# Altium footprint library djahng.PcbLib: 58 footprints (part 4 of 4)
Each footprint in its own frame and in the unit in brackets; x right, y up, seen from the top. Pads: shape width x height; smd on the part's side, far side on the other; paste and mask are expansions set on the pad; w line width, h text height; cw(c..) or ccw(c..) is an arc to the next point about the centre after c.
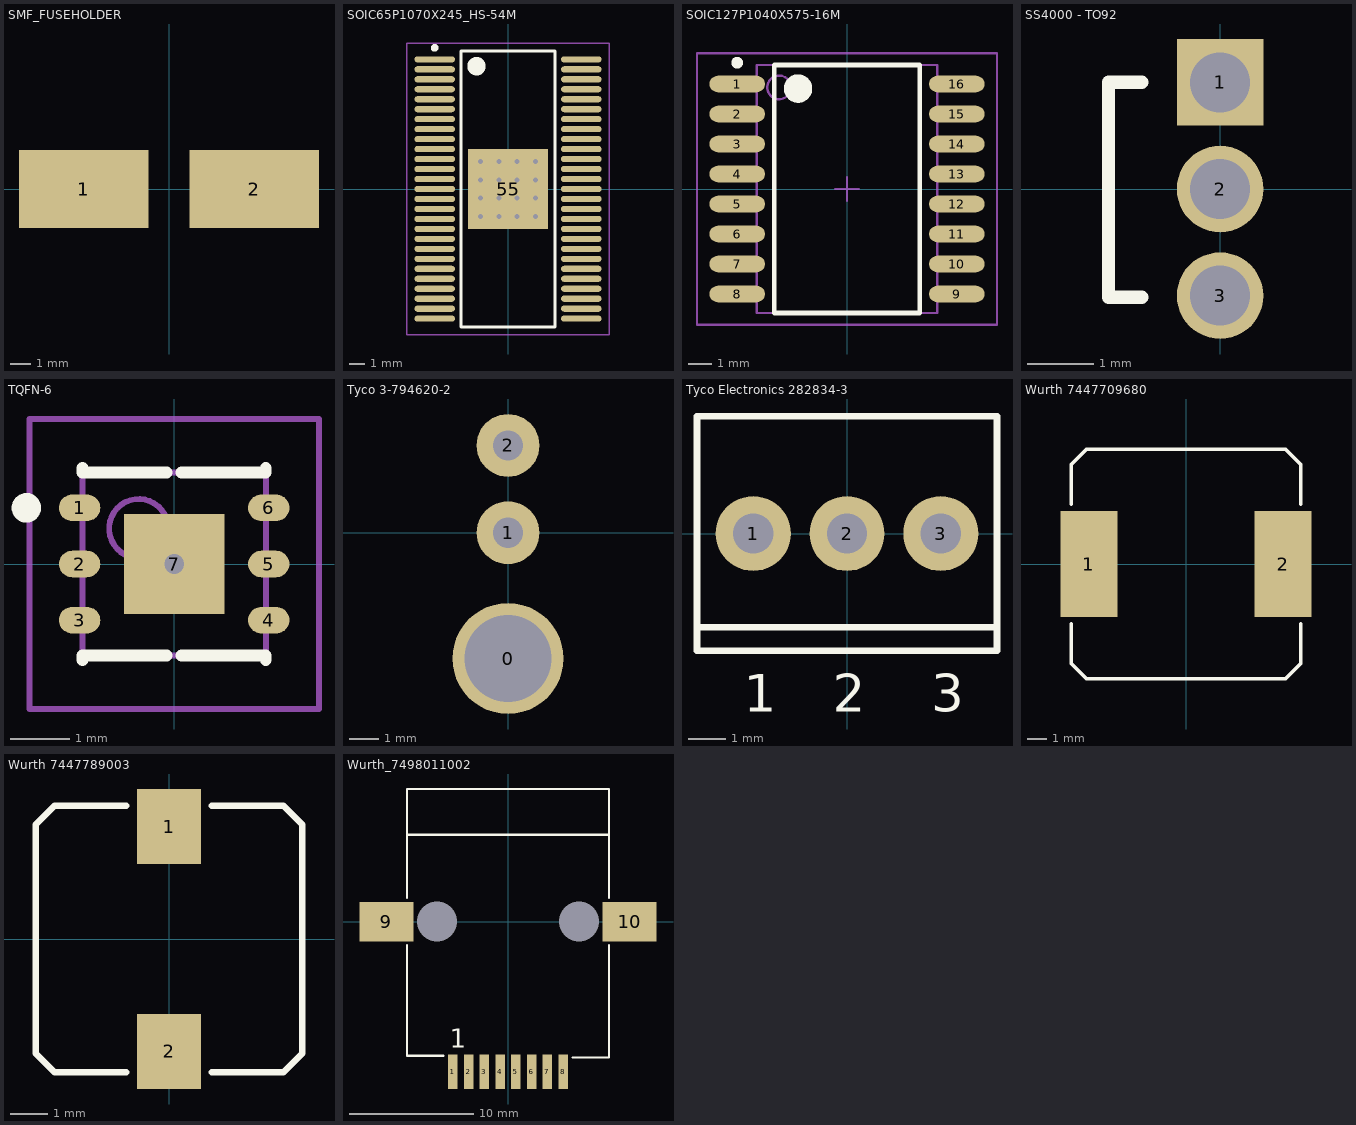
[diagram p3: the footprints below, top view; thin cyan lines are the x and y axes]

## SMF_FUSEHOLDER [mil] "Littelfuse SMF Omni-Blok Fuse holder for Nano Surface Mount Fuses"
height 150
pads (2):
  rect 250x150 smd: 1(-165,0) 2(165,0)

## SOIC65P1070X245_HS-54M [mm] "SOIC, 54-Leads, Body 18.0x7.6mm (max), Pitch 0.65mm, IPC Low Density"
height 2.45
pads (55):
  oval 2.65x0.4 smd: 1(-4.775,8.45) 2(-4.775,7.8) 3(-4.775,7.15) 4(-4.775,6.5) 5(-4.775,5.85) 6(-4.775,5.2) 7(-4.775,4.55) 8(-4.775,3.9) 9(-4.775,3.25) 10(-4.775,2.6) 11(-4.775,1.95) 12(-4.775,1.3) 13(-4.775,0.65) 14(-4.775,0) 15(-4.775,-0.65) 16(-4.775,-1.3) 17(-4.775,-1.95) 18(-4.775,-2.6) 19(-4.775,-3.25) 20(-4.775,-3.9) 21(-4.775,-4.55) 22(-4.775,-5.2) 23(-4.775,-5.85) 24(-4.775,-6.5) 25(-4.775,-7.15) 26(-4.775,-7.8) 27(-4.775,-8.45) 28(4.775,-8.45) 29(4.775,-7.8) 30(4.775,-7.15) 31(4.775,-6.5) 32(4.775,-5.85) 33(4.775,-5.2) 34(4.775,-4.55) 35(4.775,-3.9) 36(4.775,-3.25) 37(4.775,-2.6) 38(4.775,-1.95) 39(4.775,-1.3) 40(4.775,-0.65) 41(4.775,0) 42(4.775,0.65) 43(4.775,1.3) 44(4.775,1.95) 45(4.775,2.6) 46(4.775,3.25) 47(4.775,3.9) 48(4.775,4.55) 49(4.775,5.2) 50(4.775,5.85) 51(4.775,6.5) 52(4.775,7.15) 53(4.775,7.8) 54(4.775,8.45)
  rect 5.2x5.2 smd: 55(0,0)
via -1.8,1.8 diameter 0.66 hole 0.33
via -0.6,1.8 diameter 0.66 hole 0.33
via 0.6,1.8 diameter 0.66 hole 0.33
via 1.8,1.8 diameter 0.66 hole 0.33
via -1.8,0.6 diameter 0.66 hole 0.33
via -0.6,0.6 diameter 0.66 hole 0.33
via 0.6,0.6 diameter 0.66 hole 0.33
via 1.8,0.6 diameter 0.66 hole 0.33
via -1.8,-0.6 diameter 0.66 hole 0.33
via -0.6,-0.6 diameter 0.66 hole 0.33
via 0.6,-0.6 diameter 0.66 hole 0.33
via 1.8,-0.6 diameter 0.66 hole 0.33
via -1.8,-1.8 diameter 0.66 hole 0.33
via -0.6,-1.8 diameter 0.66 hole 0.33
via 0.6,-1.8 diameter 0.66 hole 0.33
via 1.8,-1.8 diameter 0.66 hole 0.33
Top Overlay:
  circle w0.25: c-4.775,9.2 r0.125
  circle w0.6: c-2.05,8 r0.3
  lines w0.2: -3.05,-9 -3.05,9 3.05,9 3.05,-9 -3.05,-9
Mechanical 13:
  circle w0.1: c-2.05,8 r0.5
  lines w0.1: -3.048,-9 -3.048,9 3.048,9 3.048,-9 -3.048,-9
Mechanical 15:
  lines w0.1: -0.5,0 0.5,0 ; 0,-0.5 0,0.5 ; -6.6,-9.5 -6.6,9.5 6.6,9.5 6.6,-9.5 -6.6,-9.5
3D body: height 2.45, standoff 0.1, extent -3.048,-9 3.048,9

## SOIC127P1040X575-16M [mm] "SOIC, 16-Leads, Body 10.5x7.7mm (max), Pitch 1.27mm, IPC Low Density"
height 5.75
pads (16):
  oval 2.35x0.7 smd: 1(-4.65,4.445) 2(-4.65,3.175) 3(-4.65,1.905) 4(-4.65,0.635) 5(-4.65,-0.635) 6(-4.65,-1.905) 7(-4.65,-3.175) 8(-4.65,-4.445) 9(4.65,-4.445) 10(4.65,-3.175) 11(4.65,-1.905) 12(4.65,-0.635) 13(4.65,0.635) 14(4.65,1.905) 15(4.65,3.175) 16(4.65,4.445)
Top Overlay:
  circle w0.6: c-2.075,4.25 r0.3
  circle w0.25: c-4.65,5.345 r0.125
  lines w0.2: -3.075,-5.25 3.075,-5.25 3.075,5.25 -3.075,5.25 -3.075,-5.25
Mechanical 13:
  circle w0.1: c-2.875,4.3 r0.5
  lines w0.1: -3.825,-5.25 3.825,-5.25 3.825,5.25 -3.825,5.25 -3.825,-5.25
Mechanical 15:
  lines w0.1: -0.5,0 0.5,0 ; 0,-0.5 0,0.5 ; -6.35,-5.75 6.35,-5.75 6.35,5.75 -6.35,5.75 -6.35,-5.75
3D body: height 5.75, standoff 0.25, extent -3.825,-5.25 3.825,5.25

## SS4000 - TO92 [mm] "SS4000 Series Hall Effect Sensors"
height 3
pads (3):
  rect 1.3x1.3 hole 0.9: 1(0,1.6)
  round 1.3 hole 0.9: 2(0,0) 3(0,-1.6)
Top Overlay:
  lines w0.2: -1.175,-1.625 -1.675,-1.625 -1.675,1.6 -1.175,1.6

## TQFN-6 [mm]
height 0.8
pads (7):
  oval 0.7x0.45 smd: 1(-1.6,0.95) 2(-1.6,0) 3(-1.6,-0.95) 4(1.6,-0.95) 5(1.6,0) 6(1.6,0.95)
  rect 1.7x1.7 smd: 7(0,0)
via 0,0 diameter 0.711 hole 0.33
Top Overlay:
  circle w0.25: c-2.5,0.95 r0.125
  lines w0.2: -1.55,-1.625 -1.55,-1.55 -0.125,-1.55 ; -1.55,1.625 -1.55,1.55 -0.125,1.55 ; 0.125,-1.55 1.55,-1.55 1.55,-1.625 ; 0.125,1.55 1.55,1.55 1.55,1.625
Mechanical 13:
  circle w0.1: c-0.6,0.6 r0.5
  lines w0.1: -1.55,-1.55 1.55,-1.55 1.55,1.55 -1.55,1.55 -1.55,-1.55
Mechanical 15:
  lines w0.1: -0.5,0 0.5,0 ; 0,-0.5 0,0.5 ; -2.45,-2.45 2.45,-2.45 2.45,2.45 -2.45,2.45 -2.45,-2.45
3D body: height 0.8, standoff 0.05, extent -1.55,-1.55 1.55,1.55

## Tyco 3-794620-2 [mil]
pads (3):
  round 150 hole 118: 0(0,-170)
  round 85 hole 41: 1(0,0) 2(0,118)

## Tyco Electronics 282834-3 [mil] "3 pos terminal block, 0.100\" spacing"
height 394
pads (3):
  round 80 hole 43: 1(-100,0) 2(0,0) 3(100,0)
Top Overlay:
  lines w7: -160,-100 160,-100 ; -160,-125 160,-125 160,125 -160,125 -160,-125
  text "1" at -110,-190 h40
  text "2" at -15,-190 h40
  text "3" at 90,-190 h40

## Wurth 7447709680 [mm]
pads (2):
  rect 2.9x5.4 smd: 1(-4.95,0) 2(4.95,0)
Top Overlay:
  lines w0.178: -5.842,-3.048 -5.842,-5.08 -5.08,-5.842 5.08,-5.842 5.842,-5.08 5.842,-3.048 ; -5.842,3.048 -5.842,5.08 -5.08,5.842 5.08,5.842 5.842,5.08 5.842,3.048

## Wurth 7447789003 [mm] "power inductor"
height 3.2
pads (2):
  rect 1.7x2 smd: 1(0,3) 2(0,-3)
Top Overlay:
  lines w0.178: -1.143,-3.556 -3.048,-3.556 -3.556,-3.048 -3.556,3.048 -3.048,3.556 -1.143,3.556 ; 1.143,-3.556 3.048,-3.556 3.556,-3.048 3.556,3.048 3.048,3.556 1.143,3.556

## Wurth_7498011002 [mil] "Wurth Elektronik RJ45 with integrated magnetics"
height 534
pads (12):
  rect 0x0 hole 127 unplated: 0(-225,0) 0(225,0)
  rect 30x110 smd: 1(-175,-475) 2(-125,-475) 3(-75,-475) 4(-25,-475) 5(25,-475) 6(75,-475) 7(125,-475) 8(175,-475)
  rect 170x125 smd: 9(-385,0) 10(385,0)
Top Overlay:
  lines w7: -320,-75 -320,-425 -205,-425 ; -320,75 -320,275 ; 205,-430 320,-430 320,-75 ; 320,75 320,275 ; -320,275 -320,420 320,420 320,275 ; -320,275 320,275
  text "1" at -185,-400 h60